# EAGLE library part MIC2981/82YN (library MIC2981)
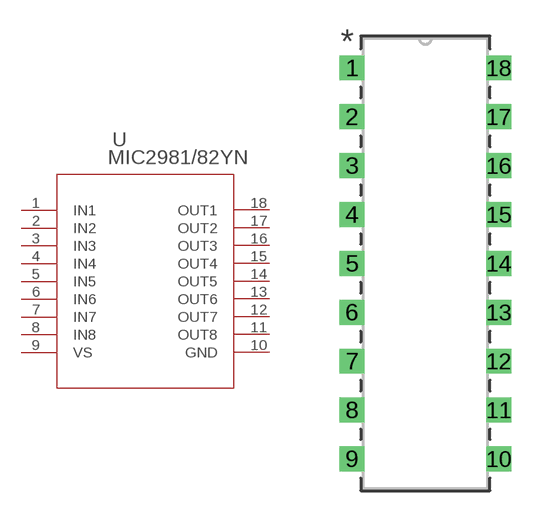
[diagram p0: symbol with the pads of PDIP18_N_MCH; footprint PDIP18_N_MCH]

Designator prefix U

## MIC2981/82YN (BUILT_BY: EMA_Cory; COPYRIGHT: Copyright (C) 2018 Accelerated Designs. All rights reserved; DATASHEET: http://ww1.microchip.com/downloads/en/DeviceDoc/mic2981.pdf; MANUFACTURER_PART_NUMBER: MIC2981/82YN; SOURCELIBRARY: Microchip_2020-07-01; VENDOR: Microchip)  [PDIP18_N_MCH]
1  IN1  in
2  IN2  in
3  IN3  in
4  IN4  in
5  IN5  in
6  IN6  in
7  IN7  in
8  IN8  in
9  VS  pwr
10  GND  pas
11  OUT8  out
12  OUT7  out
13  OUT6  out
14  OUT5  out
15  OUT4  out
16  OUT3  out
17  OUT2  out
18  OUT1  out

## Footprint PDIP18_N_MCH (pad centres in mm)
drill 0.787 pad 1.295 square: 1 0,0; 2 0,-2.54; 3 0,-5.08; 4 0,-7.62; 5 0,-10.16; 6 0,-12.7; 7 0,-15.24; 8 0,-17.78; 9 0,-20.32; 10 7.62,-20.32; 11 7.62,-17.78; 12 7.62,-15.24; 13 7.62,-12.7; 14 7.62,-10.16; 15 7.62,-7.62; 16 7.62,-5.08; 17 7.62,-2.54; 18 7.62,0